# Altium schematic symbol library SCH - ARM CORTEX - NXP LPC804UK.SchLib: 1 symbol
Pins are listed as number, name and electrical type; pins without a type are passive.

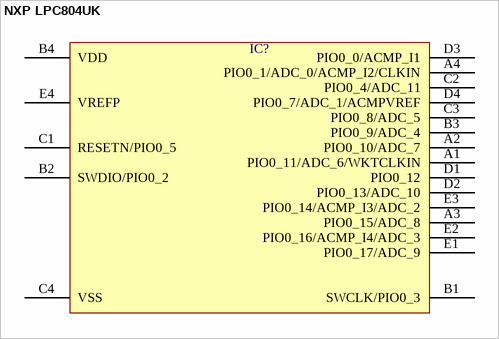
[diagram p0: symbol NXP LPC804UK]

## NXP LPC804UK
designator IC?  (value not drawn)
pins: A1 PIO0_11/ADC_6/WKTCLKIN, A2 PIO0_10/ADC_7, A3 PIO0_15/ADC_8, A4 PIO0_1/ADC_0/ACMP_I2/CLKIN, B1 SWCLK/PIO0_3, B2 SWDIO/PIO0_2, B3 PIO0_9/ADC_4, B4 VDD, C1 RESETN/PIO0_5, C2 PIO0_4/ADC_11, C3 PIO0_8/ADC_5, C4 VSS, D1 PIO0_12, D2 PIO0_13/ADC_10, D3 PIO0_0/ACMP_I1, D4 PIO0_7/ADC_1/ACMPVREF, E1 PIO0_17/ADC_9, E2 PIO0_16/ACMP_I4/ADC_3, E3 PIO0_14/ACMP_I3/ADC_2, E4 VREFP